# Altium footprint library Connectors.PcbLib: 2 footprints
Each footprint in its own frame and in the unit in brackets; x right, y up, seen from the top. Pads: shape width x height; smd on the part's side, far side on the other; paste and mask are expansions set on the pad; w line width, h text height; cw(c..) or ccw(c..) is an arc to the next point about the centre after c.
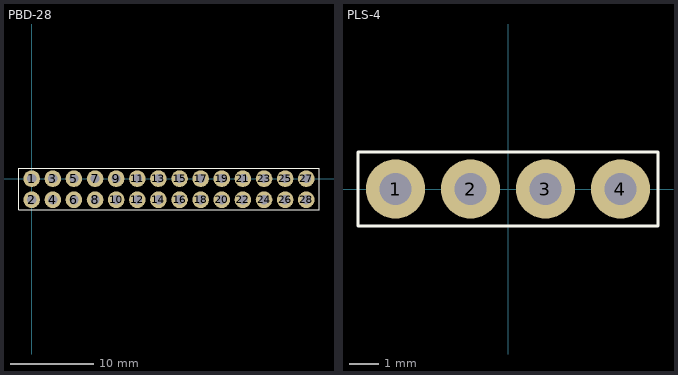
[diagram p0: the footprints below, top view; thin cyan lines are the x and y axes]

## PBD-28 [mm]
pads (28):
  round 2 hole 1.1: 1(0,0) 2(0,-2.54) 3(2.54,0) 4(2.54,-2.54) 5(5.08,0) 6(5.08,-2.54) 7(7.62,0) 8(7.62,-2.54) 9(10.16,0) 10(10.16,-2.54) 11(12.7,0) 12(12.7,-2.54) 13(15.24,0) 14(15.24,-2.54) 15(17.78,0) 16(17.78,-2.54) 17(20.32,0) 18(20.32,-2.54) 19(22.86,0) 20(22.86,-2.54) 21(25.4,0) 22(25.4,-2.54) 23(27.94,0) 24(27.94,-2.54) 25(30.48,0) 26(30.48,-2.54) 27(33.02,0) 28(33.02,-2.54)
Top Overlay:
  lines w0.1: -1.525,-3.75 34.55,-3.75 34.55,1.25 -1.525,1.25 -1.525,-3.75
3D body "User Library-PBD_(DS1023-2)_2line_connectors_h=5_0_8_5mm_step_2_54mm_fixed.STEP": height 8.5, standoff -3, extent -1.52,-3.75 34.54,1.25

## PLS-4 [mm] "Pins 1x4"
pads (4):
  round 2 hole 1.1: 1(-3.81,0) 2(-1.27,0) 3(1.27,0) 4(3.81,0)
Top Overlay:
  lines w0.1: -5.08,-1.25 -5.08,1.25 5.08,1.25 5.08,-1.25 -5.08,-1.25
3D body "User Library-1x4 TH Pitch 2_54mm.STEP": height 9.2, standoff -3.5, extent -5.08,-1.27 5.08,1.27